# Altium schematic symbol library MNP-M6.SchLib: 1 symbol
Pins are listed as number, name and electrical type; pins without a type are passive.

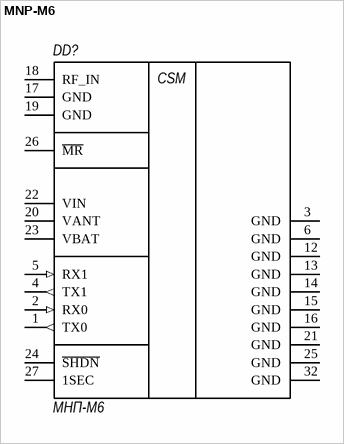
[diagram p0: symbol MNP-M6]

## MNP-M6
designator DD?, comment МНП-М6
NV08C-CSM; Value: *
footprint MNPM6
pins: 1 TX0 (out), 2 RX0 (in), 3 GND, 4 TX1 (out), 5 RX1 (in), 6 GND, 12 GND, 13 GND, 14 GND, 15 GND, 16 GND, 17 GND, 18 RF_IN, 19 GND, 20 VANT, 21 GND, 22 VIN, 23 VBAT, 24 ~{SHDN}, 25 GND, 26 ~{MR}, 27 1SEC, 32 GND
text: CSM